# Altium footprint library NER_PcbLib.PcbLib: 2 footprints
Each footprint in its own frame and in the unit in brackets; x right, y up, seen from the top. Pads: shape width x height; smd on the part's side, far side on the other; paste and mask are expansions set on the pad; w line width, h text height; cw(c..) or ccw(c..) is an arc to the next point about the centre after c.
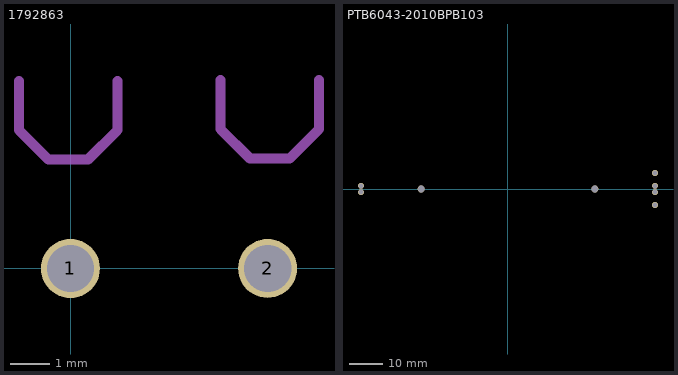
[diagram p0: the footprints below, top view; thin cyan lines are the x and y axes]

## 1792863 [mm]
pads (2):
  round 1.5 hole 1.2: 1(-0.011,-0.002) 2(5,0)
Mechanical 1:
  lines w0.254: -1.32,4.764 -1.32,3.514 -0.57,2.764 0.43,2.764 1.18,3.514 1.18,4.764 ; 3.805,4.789 3.805,3.539 4.555,2.789 5.555,2.789 6.305,3.539 6.305,4.789
3D body "pxc_1792863_02_PTS-1-5-2-5-0-H_3D.stp": height 13.72, standoff -2.38, extent -2.481,-5.524 7.519,4.976

## PTB6043-2010BPB103 [mm]
pads (8):
  round 1.8 hole 1.5: 1(-43.75,-0.95) 2(43.75,-0.95) 3(43.75,-4.75) 6(-43.75,0.95) 7(43.75,0.95) 8(43.75,4.75)
  round 2.1 hole 2: 4(-25.85,0) 5(25.85,0)
3D body "ptb6043-2010bp.stp": height 17, standoff -3.6, extent -44.25,-7.05 44.25,8.85